# EAGLE library part AT91SAM7S32/16 (library Taylor)
AT91SAM7S32/16 ARM7 Processor
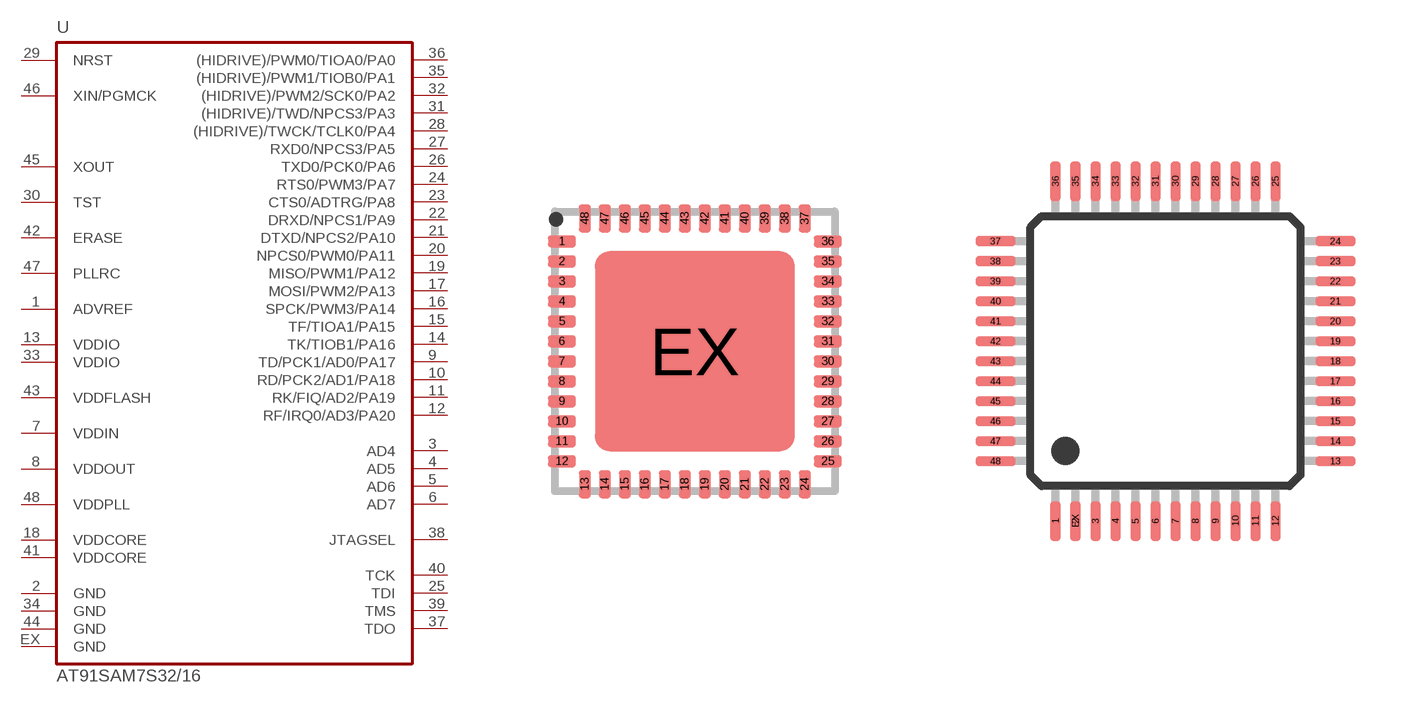
[diagram p20: symbol with the pads of QFN-48; footprints QFN-48, LQFP48WGND]

Designator prefix U

## AT91SAM7S32/16  [QFN-48]
1  ADVREF
2  GND  pwr
3  AD4
4  AD5
5  AD6
6  AD7
7  VDDIN  pwr
8  VDDOUT
9  TD/PCK1/AD0/PA17
10  RD/PCK2/AD1/PA18
11  RK/FIQ/AD2/PA19
12  RF/IRQ0/AD3/PA20
13  VDDIO  pwr
14  TK/TIOB1/PA16
15  TF/TIOA1/PA15
16  SPCK/PWM3/PA14
17  MOSI/PWM2/PA13
18  VDDCORE
19  MISO/PWM1/PA12
20  NPCS0/PWM0/PA11
21  DTXD/NPCS2/PA10
22  DRXD/NPCS1/PA9
23  CTS0/ADTRG/PA8
24  RTS0/PWM3/PA7
25  TDI
26  TXD0/PCK0/PA6
27  RXD0/NPCS3/PA5
28  (HIDRIVE)/TWCK/TCLK0/PA4
29  NRST
30  TST
31  (HIDRIVE)/TWD/NPCS3/PA3
32  (HIDRIVE)/PWM2/SCK0/PA2
33  VDDIO  pwr
34  GND  pwr
35  (HIDRIVE)/PWM1/TIOB0/PA1
36  (HIDRIVE)/PWM0/TIOA0/PA0
37  TDO
38  JTAGSEL
39  TMS
40  TCK
41  VDDCORE
42  ERASE
43  VDDFLASH  pwr
44  GND  pwr
45  XOUT
46  XIN/PGMCK
47  PLLRC
48  VDDPLL
EX  GND  pwr

## AT91SAM7S32/16-AU  [LQFP48WGND]
Pads as for QFN-48

## Footprint QFN-48 (pad centres in mm)
QFN-48 package for ATMEL SAM7
smd 0.7 x 0.3: 1 -3.325,2.75; 2 -3.325,2.25; 3 -3.325,1.75; 4 -3.325,1.25; 5 -3.325,0.75; 6 -3.325,0.25; 7 -3.325,-0.25; 8 -3.325,-0.75; 9 -3.325,-1.25; 10 -3.325,-1.75; 11 -3.325,-2.25; 12 -3.325,-2.75; 25 3.325,-2.75; 26 3.325,-2.25; 27 3.325,-1.75; 28 3.325,-1.25; 29 3.325,-0.75; 30 3.325,-0.25; 31 3.325,0.25; 32 3.325,0.75; 33 3.325,1.25; 34 3.325,1.75; 35 3.325,2.25; 36 3.325,2.75
smd 0.3 x 0.7: 13 -2.75,-3.325; 14 -2.25,-3.325; 15 -1.75,-3.325; 16 -1.25,-3.325; 17 -0.75,-3.325; 18 -0.25,-3.325; 19 0.25,-3.325; 20 0.75,-3.325; 21 1.25,-3.325; 22 1.75,-3.325; 23 2.25,-3.325; 24 2.75,-3.325; 37 2.75,3.325; 38 2.25,3.325; 39 1.75,3.325; 40 1.25,3.325; 41 0.75,3.325; 42 0.25,3.325; 43 -0.25,3.325; 44 -0.75,3.325; 45 -1.25,3.325; 46 -1.75,3.325; 47 -2.25,3.325; 48 -2.75,3.325
smd 5 x 5: EX 0,0

## Footprint LQFP48WGND (pad centres in mm)
LQFP48 WITH EXTRA PIN THIS PACKAGE HAS AN EXTRA PIN! PIN 2 and PIN EX are on top of eachother and must be connected to the same signal. This package was created to allow a 48 pin LQFP and a 48 pin QFN with ground tab to be used with the same symbol. If pin EX is not needed, leave it disconnected!
smd 0.25 x 1: 1 -2.75,-4.25; 2 -2.25,-4.25; 3 -1.75,-4.25; 4 -1.25,-4.25; 5 -0.75,-4.25; 6 -0.25,-4.25; 7 0.25,-4.25; 8 0.75,-4.25; 9 1.25,-4.25; 10 1.75,-4.25; 11 2.25,-4.25; 12 2.75,-4.25; 25 2.75,4.25; 26 2.25,4.25; 27 1.75,4.25; 28 1.25,4.25; 29 0.75,4.25; 30 0.25,4.25; 31 -0.25,4.25; 32 -0.75,4.25; 33 -1.25,4.25; 34 -1.75,4.25; 35 -2.25,4.25; 36 -2.75,4.25; EX -2.25,-4.25
smd 1 x 0.25: 13 4.25,-2.75; 14 4.25,-2.25; 15 4.25,-1.75; 16 4.25,-1.25; 17 4.25,-0.75; 18 4.25,-0.25; 19 4.25,0.25; 20 4.25,0.75; 21 4.25,1.25; 22 4.25,1.75; 23 4.25,2.25; 24 4.25,2.75; 37 -4.25,2.75; 38 -4.25,2.25; 39 -4.25,1.75; 40 -4.25,1.25; 41 -4.25,0.75; 42 -4.25,0.25; 43 -4.25,-0.25; 44 -4.25,-0.75; 45 -4.25,-1.25; 46 -4.25,-1.75; 47 -4.25,-2.25; 48 -4.25,-2.75